# EAGLE library part ITG3200_BREAKOUT (library Breakouts)
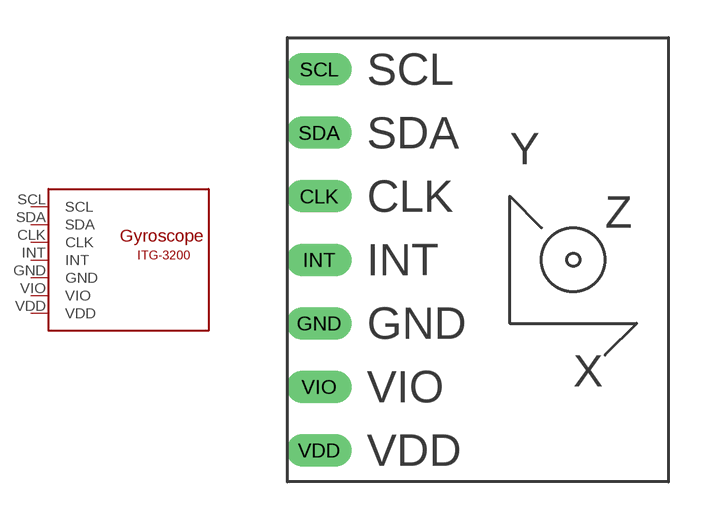
[diagram p2: symbol with the pads of ITG3200_BREAKOUT; footprint ITG3200_BREAKOUT]

Designator prefix -

## ITG3200_BREAKOUT  [ITG3200_BREAKOUT]
CLK  CLK
GND  GND
INT  INT
SCL  SCL
SDA  SDA
VDD  VDD
VIO  VIO

## Footprint ITG3200_BREAKOUT (pad centres in mm)
drill 0.8 long: CLK 1.27,11.43; GND 1.27,6.35; INT 1.27,8.89; SCL 1.27,16.51; SDA 1.27,13.97; VDD 1.27,1.27; VIO 1.27,3.81